# Altium footprint library CON5_2.54_STAGGERED.PcbLib: 1 footprints
Each footprint in its own frame and in the unit in brackets; x right, y up, seen from the top. Pads: shape width x height; smd on the part's side, far side on the other; paste and mask are expansions set on the pad; w line width, h text height; cw(c..) or ccw(c..) is an arc to the next point about the centre after c.
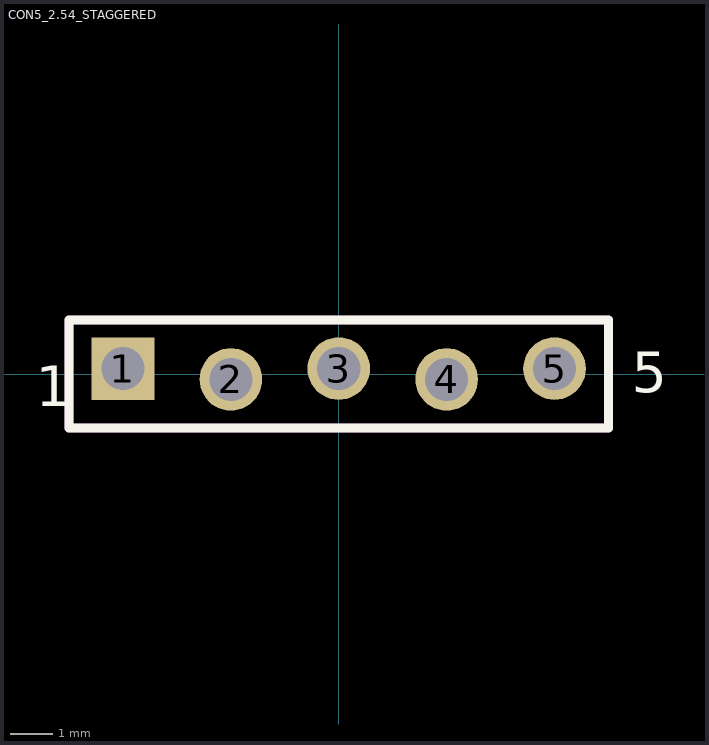
[diagram p0: the footprint, top view; thin cyan lines are the x and y axes]

## CON5_2.54_STAGGERED [mil]
pads (5):
  rect 58x58 hole 40: 1(-200,5)
  round 58 hole 40: 2(-100,-5) 3(0,5) 4(100,-5) 5(200,5)
Top Overlay:
  lines w8: -250,-50 250,-50 250,50 -250,50 -250,-50
  text "1" at -280.81,-29.85 h37.5
  text "5" at 271.55,-16.85 h37.5
Mechanical 1:
  lines w8: -250,-50 250,-50 250,50 -250,50 -250,-50